# Altium schematic symbol library 687 1xx 149 022.SchLib: 22 symbols
Pins are listed as number, name and electrical type; pins without a type are passive.

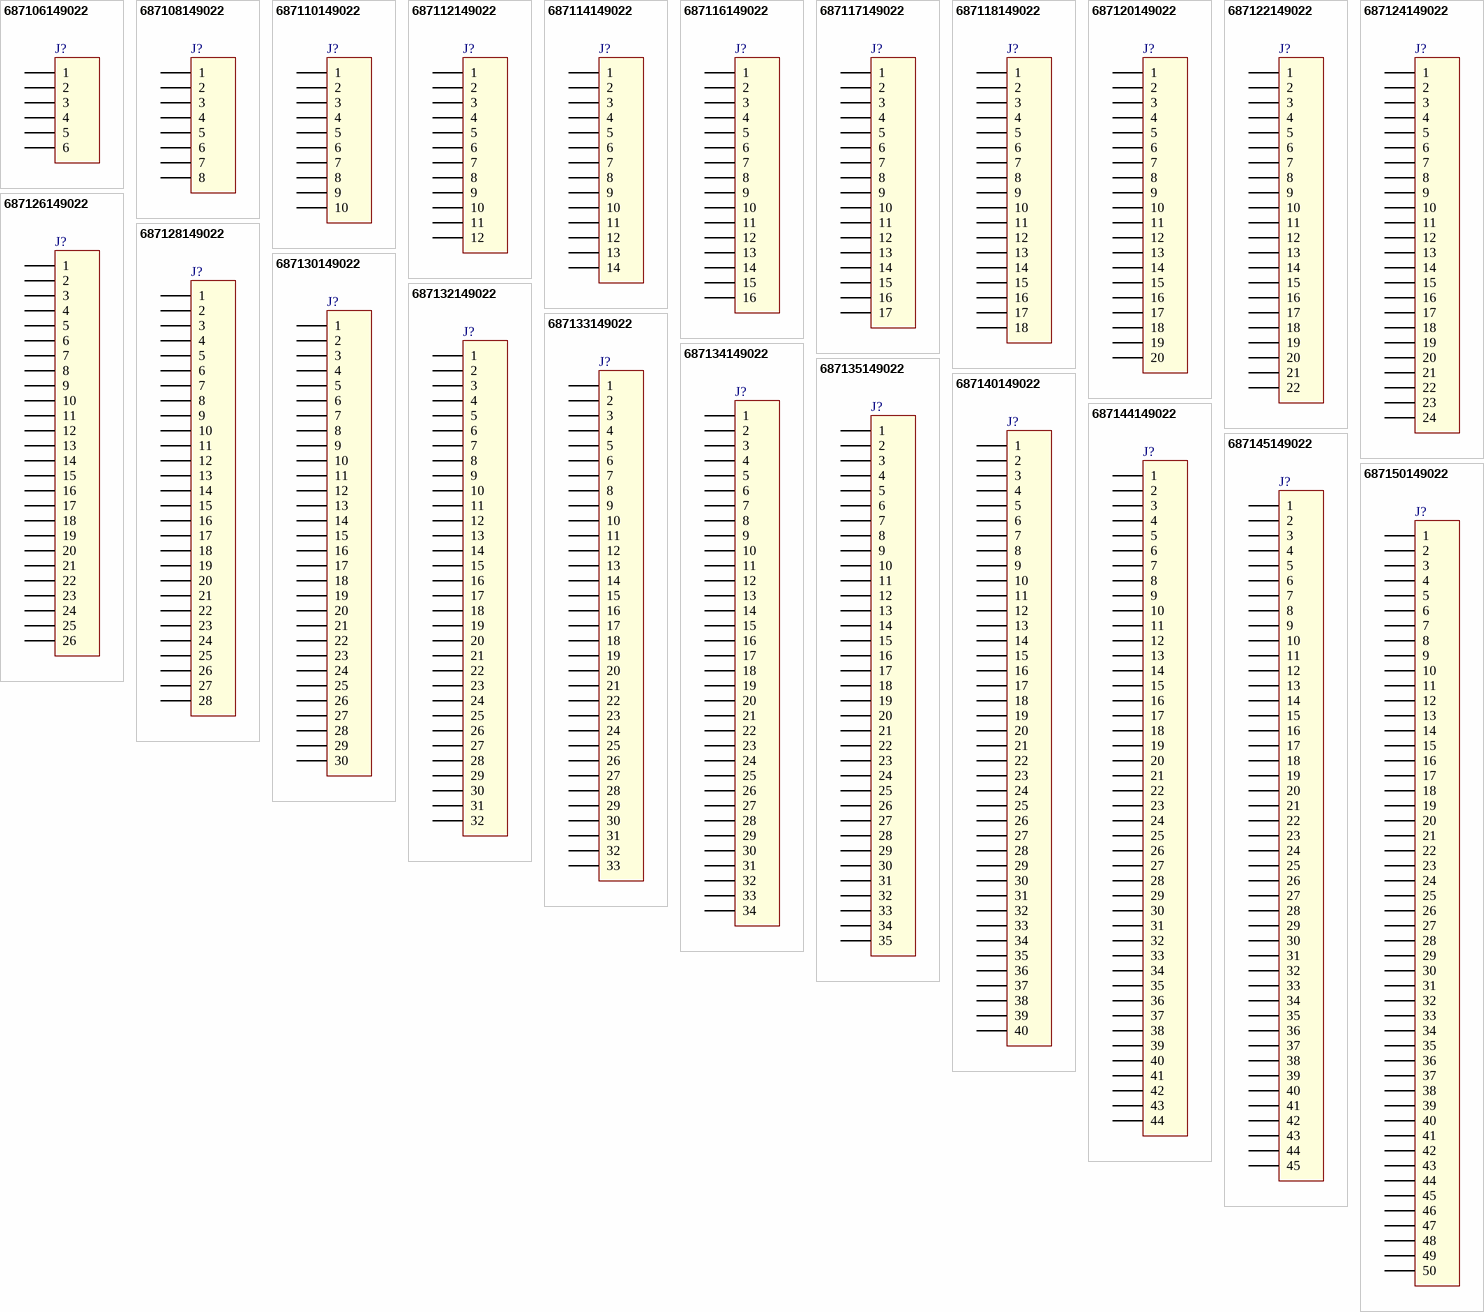
[diagram p0: symbols 687106149022 to 687150149022]

## 687106149022
designator J?
0.50 mm SMT ZIF Horizontal - Bottom Contact WR-FPC, 6 pins; Part Number: 687106149022; Pitch: 0.5 mm; Pin Number: 6; ComponentLink1Description: Manufacturer; ComponentLink1URL: http://www.we-online.de; ComponentLink2Description: Datasheet; ComponentLink2URL: http://katalog.we-online.com/em/datasheet/6871xx149022.pdf; Published Date: April 2017; Publisher: Wurth Elektronik
footprint 687106149022 (0.50 mm SMT ZIF Horizontal - Bottom Contact, 6p)
pins: 1, 2, 3, 4, 5, 6

## 687108149022
designator J?
0.50 mm SMT ZIF Horizontal - Bottom Contact WR-FPC, 8 pins; Part Number: 687108149022; Pitch: 0.5 mm; Pin Number: 8; ComponentLink1Description: Manufacturer; ComponentLink1URL: http://www.we-online.de; ComponentLink2Description: Datasheet; ComponentLink2URL: http://katalog.we-online.com/em/datasheet/6871xx149022.pdf; Published Date: April 2017; Publisher: Wurth Elektronik
footprint 687108149022 (0.50 mm SMT ZIF Horizontal - Bottom Contact, 8p)
pins: 1, 2, 3, 4, 5, 6, 7, 8

## 687110149022
designator J?
0.50 mm SMT ZIF Horizontal - Bottom Contact WR-FPC, 10 pins; Part Number: 687110149022; Pitch: 0.5 mm; Pin Number: 10; ComponentLink1Description: Manufacturer; ComponentLink1URL: http://www.we-online.de; ComponentLink2Description: Datasheet; ComponentLink2URL: http://katalog.we-online.com/em/datasheet/6871xx149022.pdf; Published Date: April 2017; Publisher: Wurth Elektronik
footprint 687110149022 (0.50 mm SMT ZIF Horizontal - Bottom Contact, 10p)
pins: 1, 2, 3, 4, 5, 6, 7, 8, 9, 10

## 687112149022
designator J?
0.50 mm SMT ZIF Horizontal - Bottom Contact WR-FPC, 12 pins; Part Number: 687112149022; Pitch: 0.5 mm; Pin Number: 12; ComponentLink1Description: Manufacturer; ComponentLink1URL: http://www.we-online.de; ComponentLink2Description: Datasheet; ComponentLink2URL: http://katalog.we-online.com/em/datasheet/6871xx149022.pdf; Published Date: April 2017; Publisher: Wurth Elektronik
footprint 687112149022 (0.50 mm SMT ZIF Horizontal - Bottom Contact, 12p)
pins: 1, 2, 3, 4, 5, 6, 7, 8, 9, 10, 11, 12

## 687114149022
designator J?
0.50 mm SMT ZIF Horizontal - Bottom Contact WR-FPC, 14 pins; Part Number: 687114149022; Pitch: 0.5 mm; Pin Number: 14; ComponentLink1Description: Manufacturer; ComponentLink1URL: http://www.we-online.de; ComponentLink2Description: Datasheet; ComponentLink2URL: http://katalog.we-online.com/em/datasheet/6871xx149022.pdf; Published Date: April 2017; Publisher: Wurth Elektronik
footprint 687114149022 (0.50 mm SMT ZIF Horizontal - Bottom Contact, 14p)
pins: 1, 2, 3, 4, 5, 6, 7, 8, 9, 10, 11, 12, 13, 14

## 687116149022
designator J?
0.50 mm SMT ZIF Horizontal - Bottom Contact WR-FPC, 16 pins; Part Number: 687116149022; Pitch: 0.5 mm; Pin Number: 16; ComponentLink1Description: Manufacturer; ComponentLink1URL: http://www.we-online.de; ComponentLink2Description: Datasheet; ComponentLink2URL: http://katalog.we-online.com/em/datasheet/6871xx149022.pdf; Published Date: April 2017; Publisher: Wurth Elektronik
footprint 687116149022 (0.50 mm SMT ZIF Horizontal - Bottom Contact, 16p)
pins: 1, 2, 3, 4, 5, 6, 7, 8, 9, 10, 11, 12, 13, 14, 15, 16

## 687117149022
designator J?
0.50 mm SMT ZIF Horizontal - Bottom Contact WR-FPC, 17 pins; Part Number: 687117149022; Pitch: 0.5 mm; Pin Number: 17; ComponentLink1Description: Manufacturer; ComponentLink1URL: http://www.we-online.de; ComponentLink2Description: Datasheet; ComponentLink2URL: http://katalog.we-online.com/em/datasheet/6871xx149022.pdf; Published Date: April 2017; Publisher: Wurth Elektronik
footprint 687117149022 (0.50 mm SMT ZIF Horizontal - Bottom Contact, 17p)
pins: 1, 2, 3, 4, 5, 6, 7, 8, 9, 10, 11, 12, 13, 14, 15, 16, 17

## 687118149022
designator J?
0.50 mm SMT ZIF Horizontal - Bottom Contact WR-FPC, 18 pins; Part Number: 687118149022; Pitch: 0.5 mm; Pin Number: 18; ComponentLink1Description: Manufacturer; ComponentLink1URL: http://www.we-online.de; ComponentLink2Description: Datasheet; ComponentLink2URL: http://katalog.we-online.com/em/datasheet/6871xx149022.pdf; Published Date: April 2017; Publisher: Wurth Elektronik
footprint 687118149022 (0.50 mm SMT ZIF Horizontal - Bottom Contact, 18p)
pins: 1, 2, 3, 4, 5, 6, 7, 8, 9, 10, 11, 12, 13, 14, 15, 16, 17, 18

## 687120149022
designator J?
0.50 mm SMT ZIF Horizontal - Bottom Contact WR-FPC, 20 pins; Part Number: 687120149022; Pitch: 0.5 mm; Pin Number: 20; ComponentLink1Description: Manufacturer; ComponentLink1URL: http://www.we-online.de; ComponentLink2Description: Datasheet; ComponentLink2URL: http://katalog.we-online.com/em/datasheet/6871xx149022.pdf; Published Date: April 2017; Publisher: Wurth Elektronik
footprint 687120149022 (0.50 mm SMT ZIF Horizontal - Bottom Contact, 20p)
pins: 1, 2, 3, 4, 5, 6, 7, 8, 9, 10, 11, 12, 13, 14, 15, 16, 17, 18, 19, 20

## 687122149022
designator J?
0.50 mm SMT ZIF Horizontal - Bottom Contact WR-FPC, 22 pins; Part Number: 687122149022; Pitch: 0.5 mm; Pin Number: 22; ComponentLink1Description: Manufacturer; ComponentLink1URL: http://www.we-online.de; ComponentLink2Description: Datasheet; ComponentLink2URL: http://katalog.we-online.com/em/datasheet/6871xx149022.pdf; Published Date: April 2017; Publisher: Wurth Elektronik
footprint 687122149022 (0.50 mm SMT ZIF Horizontal - Bottom Contact, 22p)
pins: 1, 2, 3, 4, 5, 6, 7, 8, 9, 10, 11, 12, 13, 14, 15, 16, 17, 18, 19, 20, 21, 22

## 687124149022
designator J?
0.50 mm SMT ZIF Horizontal - Bottom Contact WR-FPC, 24 pins; Part Number: 687124149022; Pitch: 0.5 mm; Pin Number: 24; ComponentLink1Description: Manufacturer; ComponentLink1URL: http://www.we-online.de; ComponentLink2Description: Datasheet; ComponentLink2URL: http://katalog.we-online.com/em/datasheet/6871xx149022.pdf; Published Date: April 2017; Publisher: Wurth Elektronik
footprint 687124149022 (0.50 mm SMT ZIF Horizontal - Bottom Contact, 24p)
pins: 1, 2, 3, 4, 5, 6, 7, 8, 9, 10, 11, 12, 13, 14, 15, 16, 17, 18, 19, 20, 21, 22, 23, 24

## 687126149022
designator J?
0.50 mm SMT ZIF Horizontal - Bottom Contact WR-FPC, 26 pins; Part Number: 687126149022; Pitch: 0.5 mm; Pin Number: 26; ComponentLink1Description: Manufacturer; ComponentLink1URL: http://www.we-online.de; ComponentLink2Description: Datasheet; ComponentLink2URL: http://katalog.we-online.com/em/datasheet/6871xx149022.pdf; Published Date: April 2017; Publisher: Wurth Elektronik
footprint 687126149022 (0.50 mm SMT ZIF Horizontal - Bottom Contact, 26p)
pins: 1, 2, 3, 4, 5, 6, 7, 8, 9, 10, 11, 12, 13, 14, 15, 16, 17, 18, 19, 20, 21, 22, 23, 24, 25, 26

## 687128149022
designator J?
0.50 mm SMT ZIF Horizontal - Bottom Contact WR-FPC, 28 pins; Part Number: 687128149022; Pitch: 0.5 mm; Pin Number: 28; ComponentLink1Description: Manufacturer; ComponentLink1URL: http://www.we-online.de; ComponentLink2Description: Datasheet; ComponentLink2URL: http://katalog.we-online.com/em/datasheet/6871xx149022.pdf; Published Date: April 2017; Publisher: Wurth Elektronik
footprint 687128149022 (0.50 mm SMT ZIF Horizontal - Bottom Contact, 28p)
pins: 1, 2, 3, 4, 5, 6, 7, 8, 9, 10, 11, 12, 13, 14, 15, 16, 17, 18, 19, 20, 21, 22, 23, 24, 25, 26, 27, 28

## 687130149022
designator J?
0.50 mm SMT ZIF Horizontal - Bottom Contact WR-FPC, 30 pins; Part Number: 687130149022; Pitch: 0.5 mm; Pin Number: 30; ComponentLink1Description: Manufacturer; ComponentLink1URL: http://www.we-online.de; ComponentLink2Description: Datasheet; ComponentLink2URL: http://katalog.we-online.com/em/datasheet/6871xx149022.pdf; Published Date: April 2017; Publisher: Wurth Elektronik
footprint 687130149022 (0.50 mm SMT ZIF Horizontal - Bottom Contact, 30p)
pins: 1, 2, 3, 4, 5, 6, 7, 8, 9, 10, 11, 12, 13, 14, 15, 16, 17, 18, 19, 20, 21, 22, 23, 24, 25, 26, 27, 28, 29, 30

## 687132149022
designator J?
0.50 mm SMT ZIF Horizontal - Bottom Contact WR-FPC, 32 pins; Part Number: 687132149022; Pitch: 0.5 mm; Pin Number: 32; ComponentLink1Description: Manufacturer; ComponentLink1URL: http://www.we-online.de; ComponentLink2Description: Datasheet; ComponentLink2URL: http://katalog.we-online.com/em/datasheet/6871xx149022.pdf; Published Date: April 2017; Publisher: Wurth Elektronik
footprint 687132149022 (0.50 mm SMT ZIF Horizontal - Bottom Contact, 32p)
pins: 1, 2, 3, 4, 5, 6, 7, 8, 9, 10, 11, 12, 13, 14, 15, 16, 17, 18, 19, 20, 21, 22, 23, 24, 25, 26, 27, 28, 29, 30, 31, 32

## 687133149022
designator J?
0.50 mm SMT ZIF Horizontal - Bottom Contact WR-FPC, 33 pins; Part Number: 687133149022; Pitch: 0.5 mm; Pin Number: 33; ComponentLink1Description: Manufacturer; ComponentLink1URL: http://www.we-online.de; ComponentLink2Description: Datasheet; ComponentLink2URL: http://katalog.we-online.com/em/datasheet/6871xx149022.pdf; Published Date: April 2017; Publisher: Wurth Elektronik
footprint 687133149022 (0.50 mm SMT ZIF Horizontal - Bottom Contact, 33p)
pins: 1, 2, 3, 4, 5, 6, 7, 8, 9, 10, 11, 12, 13, 14, 15, 16, 17, 18, 19, 20, 21, 22, 23, 24, 25, 26, 27, 28, 29, 30, 31, 32, 33

## 687134149022
designator J?
0.50 mm SMT ZIF Horizontal - Bottom Contact WR-FPC, 34 pins; Part Number: 687134149022; Pitch: 0.5 mm; Pin Number: 34; ComponentLink1Description: Manufacturer; ComponentLink1URL: http://www.we-online.de; ComponentLink2Description: Datasheet; ComponentLink2URL: http://katalog.we-online.com/em/datasheet/6871xx149022.pdf; Published Date: April 2017; Publisher: Wurth Elektronik
footprint 687134149022 (0.50 mm SMT ZIF Horizontal - Bottom Contact, 34p)
pins: 1, 2, 3, 4, 5, 6, 7, 8, 9, 10, 11, 12, 13, 14, 15, 16, 17, 18, 19, 20, 21, 22, 23, 24, 25, 26, 27, 28, 29, 30, 31, 32, 33, 34

## 687135149022
designator J?
0.50 mm SMT ZIF Horizontal - Bottom Contact WR-FPC, 35 pins; Part Number: 687135149022; Pitch: 0.5 mm; Pin Number: 35; ComponentLink1Description: Manufacturer; ComponentLink1URL: http://www.we-online.de; ComponentLink2Description: Datasheet; ComponentLink2URL: http://katalog.we-online.com/em/datasheet/6871xx149022.pdf; Published Date: April 2017; Publisher: Wurth Elektronik
footprint 687135149022 (0.50 mm SMT ZIF Horizontal - Bottom Contact, 35p)
pins: 1, 2, 3, 4, 5, 6, 7, 8, 9, 10, 11, 12, 13, 14, 15, 16, 17, 18, 19, 20, 21, 22, 23, 24, 25, 26, 27, 28, 29, 30, 31, 32, 33, 34, 35

## 687140149022
designator J?
0.50 mm SMT ZIF Horizontal - Bottom Contact WR-FPC, 40 pins; Part Number: 687140149022; Pitch: 0.5 mm; Pin Number: 40; ComponentLink1Description: Manufacturer; ComponentLink1URL: http://www.we-online.de; ComponentLink2Description: Datasheet; ComponentLink2URL: http://katalog.we-online.com/em/datasheet/6871xx149022.pdf; Published Date: April 2017; Publisher: Wurth Elektronik
footprint 687140149022 (0.50 mm SMT ZIF Horizontal - Bottom Contact, 40p)
pins: 1, 2, 3, 4, 5, 6, 7, 8, 9, 10, 11, 12, 13, 14, 15, 16, 17, 18, 19, 20, 21, 22, 23, 24, 25, 26, 27, 28, 29, 30, 31, 32, 33, 34, 35, 36, 37, 38, 39, 40

## 687144149022
designator J?
0.50 mm SMT ZIF Horizontal - Bottom Contact WR-FPC, 44 pins; Part Number: 687144149022; Pitch: 0.5 mm; Pin Number: 44; ComponentLink1Description: Manufacturer; ComponentLink1URL: http://www.we-online.de; ComponentLink2Description: Datasheet; ComponentLink2URL: http://katalog.we-online.com/em/datasheet/6871xx149022.pdf; Published Date: April 2017; Publisher: Wurth Elektronik
footprint 687144149022 (0.50 mm SMT ZIF Horizontal - Bottom Contact, 44p)
pins: 1, 2, 3, 4, 5, 6, 7, 8, 9, 10, 11, 12, 13, 14, 15, 16, 17, 18, 19, 20, 21, 22, 23, 24, 25, 26, 27, 28, 29, 30, 31, 32, 33, 34, 35, 36, 37, 38, 39, 40, 41, 42, 43, 44

## 687145149022
designator J?
0.50 mm SMT ZIF Horizontal - Bottom Contact WR-FPC, 45 pins; Part Number: 687145149022; Pitch: 0.5 mm; Pin Number: 45; ComponentLink1Description: Manufacturer; ComponentLink1URL: http://www.we-online.de; ComponentLink2Description: Datasheet; ComponentLink2URL: http://katalog.we-online.com/em/datasheet/6871xx149022.pdf; Published Date: April 2017; Publisher: Wurth Elektronik
footprint 687145149022 (0.50 mm SMT ZIF Horizontal - Bottom Contact, 45p)
pins: 1, 2, 3, 4, 5, 6, 7, 8, 9, 10, 11, 12, 13, 14, 15, 16, 17, 18, 19, 20, 21, 22, 23, 24, 25, 26, 27, 28, 29, 30, 31, 32, 33, 34, 35, 36, 37, 38, 39, 40, 41, 42, 43, 44, 45

## 687150149022
designator J?
0.50 mm SMT ZIF Horizontal - Bottom Contact WR-FPC, 50 pins; Part Number: 687150149022; Pitch: 0.5 mm; Pin Number: 50; ComponentLink1Description: Manufacturer; ComponentLink1URL: http://www.we-online.de; ComponentLink2Description: Datasheet; ComponentLink2URL: http://katalog.we-online.com/em/datasheet/6871xx149022.pdf; Published Date: April 2017; Publisher: Wurth Elektronik
footprint 687150149022 (0.50 mm SMT ZIF Horizontal - Bottom Contact, 50p)
pins: 1, 2, 3, 4, 5, 6, 7, 8, 9, 10, 11, 12, 13, 14, 15, 16, 17, 18, 19, 20, 21, 22, 23, 24, 25, 26, 27, 28, 29, 30, 31, 32, 33, 34, 35, 36, 37, 38, 39, 40, 41, 42, 43, 44, 45, 46, 47, 48, 49, 50